# Altium footprint library MC-IMX6Q-BOARD.PcbLib: 56 footprints (part 2 of 4)
Each footprint in its own frame and in the unit in brackets; x right, y up, seen from the top. Pads: shape width x height; smd on the part's side, far side on the other; paste and mask are expansions set on the pad; w line width, h text height; cw(c..) or ccw(c..) is an arc to the next point about the centre after c.
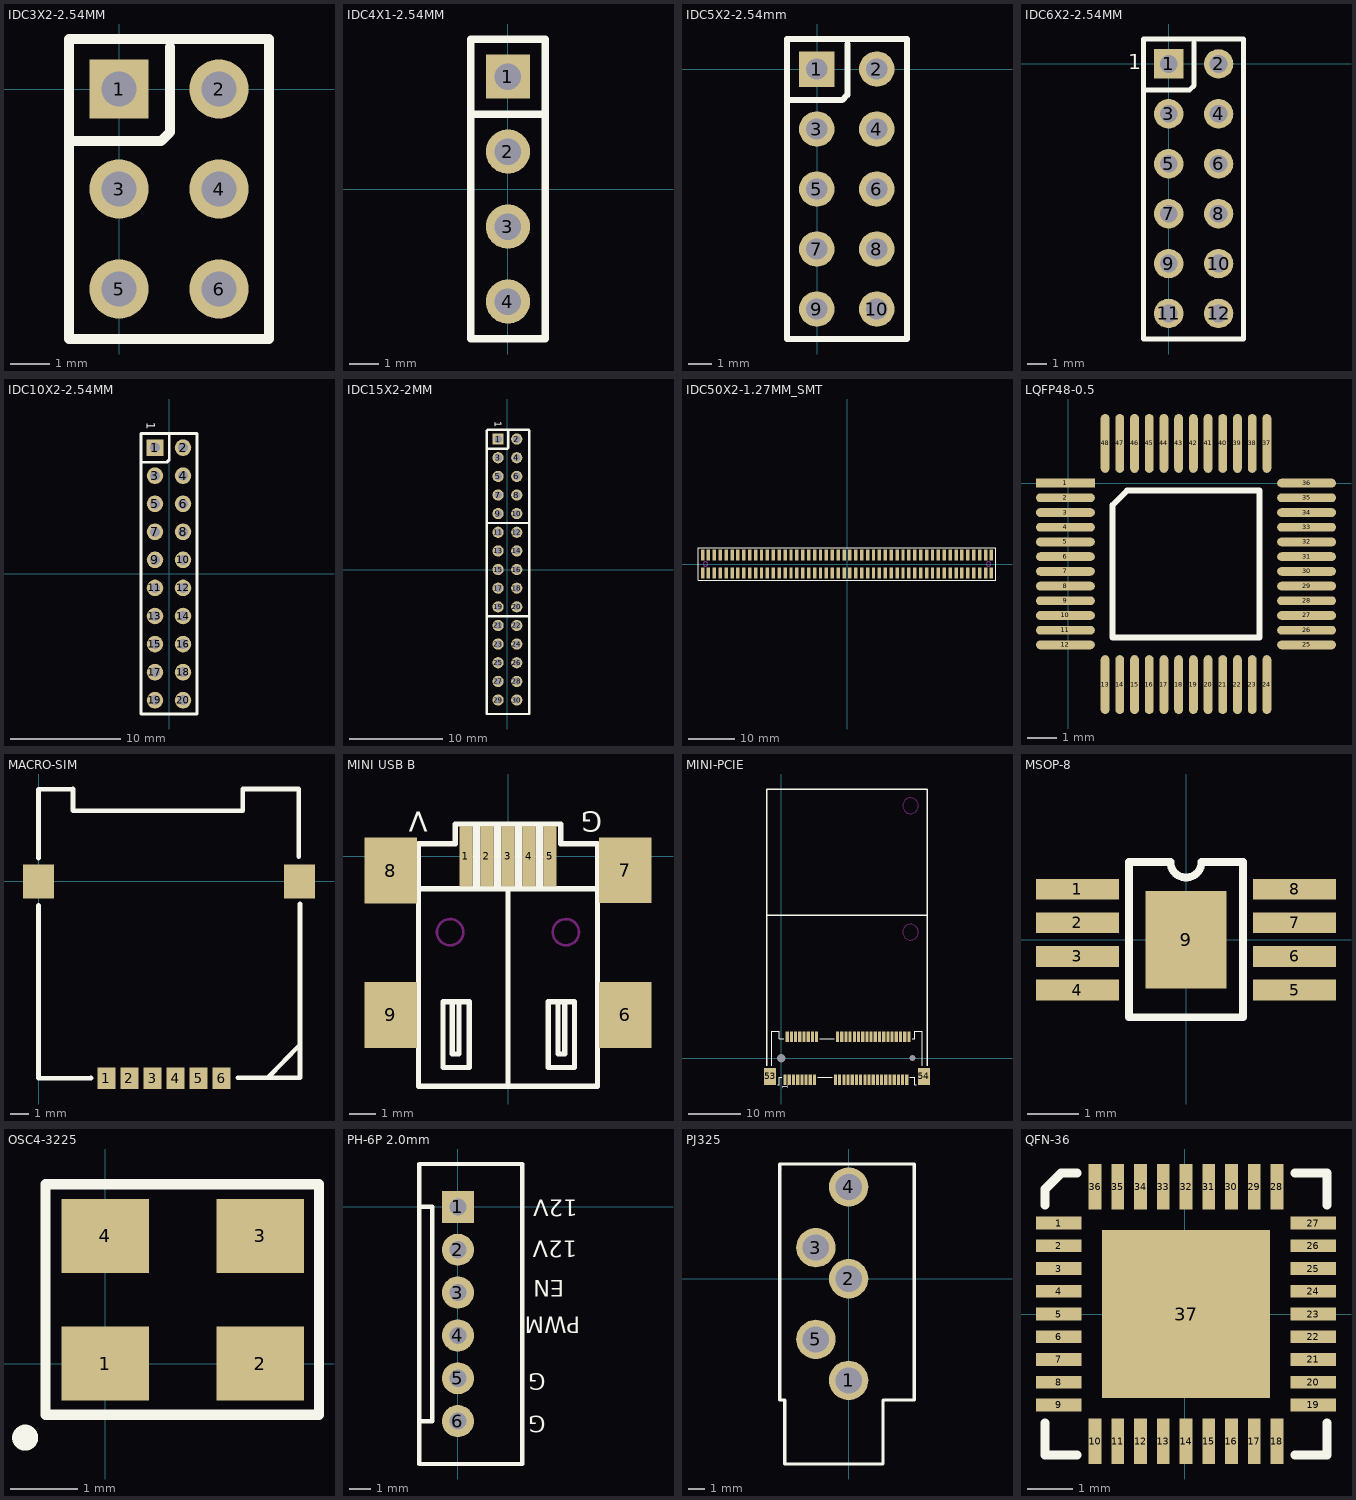
[diagram p1: the footprints below, top view; thin cyan lines are the x and y axes]

## IDC3X2-2.54MM [mm]
pads (6):
  rect 1.5x1.5 hole 0.9: 1(0,0)
  round 1.5 hole 0.9: 2(2.54,0) 3(0,-2.54) 4(2.54,-2.54) 5(0,-5.08) 6(2.54,-5.08)
Top Overlay:
  lines w0.254: -1.208,-1.32 1.072,-1.32 1.296,-1.096 1.296,1.064 ; -1.27,-6.35 3.81,-6.35 3.81,1.27 -1.27,1.27 -1.27,-6.35

## IDC4X1-2.54MM [mm]
pads (4):
  rect 1.5x1.5 hole 0.9: 1(0,3.81)
  round 1.5 hole 0.9: 2(0,1.27) 3(0,-1.27) 4(0,-3.81)
Top Overlay:
  lines w0.254: -1.268,2.542 1.272,2.542 ; -1.268,-5.078 -1.268,5.082 1.272,5.082 1.272,-5.078 -1.268,-5.078

## IDC5X2-2.54mm [mm]
height 1.35
pads (10):
  rect 1.5x1.5 hole 0.9: 1(-0.009,-0.002)
  round 1.5 hole 0.9: 2(2.531,-0.002) 3(-0.009,-2.542) 4(2.531,-2.542) 5(-0.009,-5.082) 6(2.531,-5.082) 7(-0.009,-7.622) 8(2.531,-7.622) 9(-0.009,-10.162) 10(2.531,-10.162)
Top Overlay:
  lines w0.254: -1.217,-1.322 1.063,-1.322 1.287,-1.098 1.287,1.062 ; -1.27,-11.43 -1.27,1.27 3.81,1.27 3.81,-11.43 -1.27,-11.43

## IDC6X2-2.54MM [mm]
height 1.35
pads (12):
  rect 1.5x1.5 hole 0.9: 1(0,0)
  round 1.5 hole 0.9: 2(2.54,0) 3(0,-2.54) 4(2.54,-2.54) 5(0,-5.08) 6(2.54,-5.08) 7(0,-7.62) 8(2.54,-7.62) 9(0,-10.16) 10(2.54,-10.16) 11(0,-12.7) 12(2.54,-12.7)
Top Overlay:
  lines w0.254: -1.28,-14 3.8,-14 ; -1.27,-14 -1.27,1.27 3.81,1.27 3.81,-14 ; -1.208,-1.32 1.072,-1.32 1.296,-1.096 1.296,1.064
  text "1" at -2.044,-0.275 h0.76

## IDC10X2-2.54MM [mm]
height 1.35
pads (20):
  rect 1.5x1.5 hole 0.9: 1(-1.27,11.43)
  round 1.5 hole 0.9: 2(1.27,11.43) 3(-1.27,8.89) 4(1.27,8.89) 5(-1.27,6.35) 6(1.27,6.35) 7(-1.27,3.81) 8(1.27,3.81) 9(-1.27,1.27) 10(1.27,1.27) 11(-1.27,-1.27) 12(1.27,-1.27) 13(-1.27,-3.81) 14(1.27,-3.81) 15(-1.27,-6.35) 16(1.27,-6.35) 17(-1.27,-8.89) 18(1.27,-8.89) 19(-1.27,-11.43) 20(1.27,-11.43)
Top Overlay:
  lines w0.254: -2.54,12.694 -2.54,-7.62 -2.54,-12.68 2.54,-12.68 2.54,-7.62 2.54,12.7 -2.54,12.7 ; -2.478,10.11 -0.198,10.11 0.026,10.334 0.026,12.694
  text "1" at -2.032,13.716 h0.76

## IDC15X2-2MM [mm]
height 1.4
pads (30):
  rect 1.2x1.2 hole 0.8: 1(-1,14)
  round 1.2 hole 0.8: 2(1,14) 3(-1,12) 4(1,12) 5(-1,10) 6(1,10) 7(-1,8) 8(1,8) 9(-1,6) 10(1,6) 11(-1,4) 12(1,4) 13(-1,2) 14(1,2) 15(-1,0) 16(1,0) 17(-1,-2) 18(1,-2) 19(-1,-4) 20(1,-4) 21(-1,-6) 22(1,-6) 23(-1,-8) 24(1,-8) 25(-1,-10) 26(1,-10) 27(-1,-12) 28(1,-12) 29(-1,-14) 30(1,-14)
Top Overlay:
  lines w0.254: -2.216,-5 2.336,-5 ; -2.216,5 2.285,5 ; -2.216,12.952 -0.016,12.952 0.072,13.04 0.072,14.888 ; -2.216,-15.5 2.336,-15.5 2.336,14.928 2.272,14.992 -2.136,14.992 -2.216,14.912 -2.216,-15.5
  text "1" at -1.381,15.93 h0.76

## IDC50X2-1.27MM_SMT [mm]
height 1.35
pads (100):
  rect 0.74x2.4 smd: 1(-31.115,-1.95) 2(-31.115,1.95) 3(-29.845,-1.95) 4(-29.845,1.95) 5(-28.575,-1.95) 6(-28.575,1.95) 7(-27.305,-1.95) 8(-27.305,1.95) 9(-26.035,-1.95) 10(-26.035,1.95) 11(-24.765,-1.95) 12(-24.765,1.95) 13(-23.495,-1.95) 14(-23.495,1.95) 15(-22.225,-1.95) 16(-22.225,1.95) 17(-20.955,-1.95) 18(-20.955,1.95) 19(-19.685,-1.95) 20(-19.685,1.95) 21(-18.415,-1.95) 22(-18.415,1.95) 23(-17.145,-1.95) 24(-17.145,1.95) 25(-15.875,-1.95) 26(-15.875,1.95) 27(-14.605,-1.95) 28(-14.605,1.95) 29(-13.335,-1.95) 30(-13.335,1.95) 31(-12.065,-1.95) 32(-12.065,1.95) 33(-10.795,-1.95) 34(-10.795,1.95) 35(-9.525,-1.95) 36(-9.525,1.95) 37(-8.255,-1.95) 38(-8.255,1.95) 39(-6.985,-1.95) 40(-6.985,1.95) 41(-5.715,-1.95) 42(-5.715,1.95) 43(-4.445,-1.95) 44(-4.445,1.95) 45(-3.175,-1.95) 46(-3.175,1.95) 47(-1.905,-1.95) 48(-1.905,1.95) 49(-0.635,-1.95) 50(-0.635,1.95) 51(0.635,-1.95) 52(0.635,1.95) 53(1.905,-1.95) 54(1.905,1.95) 55(3.175,-1.95) 56(3.175,1.95) 57(4.445,-1.95) 58(4.445,1.95) 59(5.715,-1.95) 60(5.715,1.95) 61(6.985,-1.95) 62(6.985,1.95) 63(8.255,-1.95) 64(8.255,1.95) 65(9.525,-1.95) 66(9.525,1.95) 67(10.795,-1.95) 68(10.795,1.95) 69(12.065,-1.95) 70(12.065,1.95) 71(13.335,-1.95) 72(13.335,1.95) 73(14.605,-1.95) 74(14.605,1.95) 75(15.875,-1.95) 76(15.875,1.95) 77(17.145,-1.95) 78(17.145,1.95) 79(18.415,-1.95) 80(18.415,1.95) 81(19.685,-1.95) 82(19.685,1.95) 83(20.955,-1.95) 84(20.955,1.95) 85(22.225,-1.95) 86(22.225,1.95) 87(23.495,-1.95) 88(23.495,1.95) 89(24.765,-1.95) 90(24.765,1.95) 91(26.035,-1.95) 92(26.035,1.95) 93(27.305,-1.95) 94(27.305,1.95) 95(28.575,-1.95) 96(28.575,1.95) 97(29.845,-1.95) 98(29.845,1.95) 99(31.115,-1.95) 100(31.115,1.95)
Top Overlay:
  lines w0.2: -32,-3.5 -32,3.5 32,3.5 32,-3.5 -32,-3.5
Keep-Out Layer:
  circle w0.203: c30.48,0 r0.5
  circle w0.203: c-30.48,0 r0.5

## LQFP48-0.5 [mm]
height 1.35
pads (48):
  rect 2x0.3 smd: 1(-0.1,0)
  oval 2x0.3 smd: 2(-0.1,-0.5) 3(-0.1,-1) 4(-0.1,-1.5) 5(-0.1,-2) 6(-0.1,-2.5) 7(-0.1,-3) 8(-0.1,-3.5) 9(-0.1,-4) 10(-0.1,-4.5) 11(-0.1,-5) 12(-0.1,-5.5) 25(8.1,-5.5) 26(8.1,-5) 27(8.1,-4.5) 28(8.1,-4) 29(8.1,-3.5) 30(8.1,-3) 31(8.1,-2.5) 32(8.1,-2) 33(8.1,-1.5) 34(8.1,-1) 35(8.1,-0.5) 36(8.1,0)
  oval 0.3x2 smd: 13(1.25,-6.85) 14(1.75,-6.85) 15(2.25,-6.85) 16(2.75,-6.85) 17(3.25,-6.85) 18(3.75,-6.85) 19(4.25,-6.85) 20(4.75,-6.85) 21(5.25,-6.85) 22(5.75,-6.85) 23(6.25,-6.85) 24(6.75,-6.85) 37(6.75,1.35) 38(6.25,1.35) 39(5.75,1.35) 40(5.25,1.35) 41(4.75,1.35) 42(4.25,1.35) 43(3.75,1.35) 44(3.25,1.35) 45(2.75,1.35) 46(2.25,1.35) 47(1.75,1.35) 48(1.25,1.35)
Top Overlay:
  lines w0.2: 1.5,-0.75 1.5,-5.25 6.5,-5.25 6.5,-0.25 2,-0.25
  lines w0.203: 1.5,-0.75 2,-0.25
  text "." at -1.047,0.863 h0.76

## MACRO-SIM [mm]
pads (8):
  rect 1x1.2 smd: 1(3.75,-10.86) 2(5.02,-10.86) 3(6.29,-10.86) 4(7.56,-10.86) 5(8.83,-10.86) 6(10.1,-10.86)
  rect 1.7x1.9 smd: ""(0,-0.01) ""(14.4,-0.01)
Top Overlay:
  lines w0.254: 0,-1.331 0,-10.86 2.896,-10.856 ; 0,1.285 0,5.09 1.905,5.095 1.905,3.902 11.278,3.902 11.278,5.095 14.351,5.095 14.351,1.362 ; 10.998,-10.83 14.427,-10.83 14.427,-1.229 ; 12.649,-10.83 14.427,-9.027

## MINI USB B [mm]
pads (9):
  rect 0.5x2.3 smd: 1(-1.6,0) 2(-0.8,0) 3(0,0) 4(0.8,0) 5(1.6,0)
  rect 2x2.5 smd: 6(4.45,-6.038) 7(4.45,-0.538) 8(-4.45,-0.554) 9(-4.45,-6.038)
Top Overlay:
  rectangle: 1.041,-1.143 1.346,1.143
  rectangle: 0.254,-1.168 0.559,1.118
  rectangle: -1.346,-1.143 -1.041,1.143
  rectangle: -0.559,-1.143 -0.254,1.143
  lines w0.2: -3.4,-1.241 3.4,-1.241 ; -2.114,-5.538 -2.114,-7.523 -1.91,-7.523 -1.86,-7.523 -1.86,-5.538 ; 0,-8.743 0,-1.245 ; 1.9,-5.538 1.9,-7.523 2.154,-7.523 2.154,-5.538 ; -3.4,-8.743 3.4,-8.743 3.4,0.462 2,0.462 2,1.219 -2,1.219 -2,0.462 -2.611,0.462 -3.4,0.462 -3.4,-8.743 ; -2.474,-8.037 -1.474,-8.037 -1.474,-5.538 -2.474,-5.538 -2.474,-8.037 ; 1.526,-8.037 1.526,-5.538 2.526,-5.538 2.526,-8.037 1.526,-8.037
  text "V" at -3.048,1.676 h0.76
  text "G" at 3.581,1.676 h0.76
Keep-Out Layer:
  circle w0.1: c-2.2,-2.893 r0.5
  circle w0.1: c2.2,-2.893 r0.5
3D body "miniUSB-DIP.STEP": height 3.95, standoff -1, extent -5.324,-8.77 5.376,0.43

## MINI-PCIE [mm]
pads (56):
  rect 0.6x2 smd: 1(0.7,-4.1) 2(1.1,4.1) 3(1.5,-4.1) 4(1.9,4.1) 5(2.3,-4.1) 6(2.7,4.1) 7(3.1,-4.1) 8(3.5,4.1) 9(3.9,-4.1) 10(4.3,4.1) 11(4.7,-4.1) 12(5.1,4.1) 13(5.5,-4.1) 14(5.9,4.1) 15(6.3,-4.1) 16(6.7,4.1) 17(10.3,-4.1) 18(10.7,4.1) 19(11.1,-4.1) 20(11.5,4.1) 21(11.9,-4.1) 22(12.3,4.1) 23(12.7,-4.1) 24(13.1,4.1) 25(13.5,-4.1) 26(13.9,4.1) 27(14.3,-4.1) 28(14.7,4.1) 29(15.1,-4.1) 30(15.5,4.1) 31(15.9,-4.1) 32(16.3,4.1) 33(16.7,-4.1) 34(17.1,4.1) 35(17.5,-4.1) 36(17.9,4.1) 37(18.3,-4.1) 38(18.7,4.1) 39(19.1,-4.1) 40(19.5,4.1) 41(19.9,-4.1) 42(20.3,4.1) 43(20.7,-4.1) 44(21.1,4.1) 45(21.5,-4.1) 46(21.9,4.1) 47(22.3,-4.1) 48(22.7,4.1) 49(23.1,-4.1) 50(23.5,4.1) 51(23.9,-4.1) 52(24.3,4.1)
  rect 2.3x3.2 smd: 53(-2.15,-3.5) 54(27.15,-3.5)
  rrect70% 0x0 hole 1.6: 55(0,0)
  rrect70% 0x0 hole 1.1: 56(25,0)
Top Overlay:
  lines w0.2: -1.8,-1.5 -1.8,5.1 -0.4,5.1 -0.4,3.7 0.4,3.7 ; -0.7,-5.1 -0.4,-5.1 -0.4,-3.7 0.1,-3.7 ; 6.9,-3.7 9.7,-3.7 ; 7.3,3.7 10.1,3.7 ; 24.5,-3.7 25.4,-3.7 25.4,-5.1 25.7,-5.1 ; 24.9,3.7 25.4,3.7 25.4,5.1 26.8,5.1 26.8,-1.5
  lines w0.254: -2.8,-1.5 -2.8,51.3 -2.3,51.3 27.8,51.3 27.8,-1.5 ; -2.8,27.2 27.8,27.2
  text "1" at 1.2,-5.9 h1.02
Keep-Out Layer:
  circle w0.203: c24.6,24 r1.5
  circle w0.203: c24.6,48.1 r1.5

## MSOP-8 [mm]
height 1.35
pads (9):
  rect 1.6x0.4 smd: 1(-2.1,0.975) 2(-2.1,0.325) 3(-2.1,-0.325) 4(-2.1,-0.975) 5(2.1,-0.975) 6(2.1,-0.325) 7(2.1,0.325) 8(2.1,0.975)
  rect 1.57x1.89 smd: 9(0,0)
Top Overlay:
  lines w0.15: -1.1,-1.5 -1.1,1.5 -0.3,1.5 ccw(c0,1.5) 0.3,1.5 1.1,1.5 1.1,-1.5 -1.1,-1.5

## OSC4-3225 [mm]
height 1.35
pads (4):
  rect 1.3x1.1 smd: 1(0,0) 2(2.3,0) 3(2.3,1.9) 4(0,1.9)
Top Overlay:
  circle w0.203: c-1.192,-1.101 r0.092
  lines w0.152: -0.889,-0.762 -0.889,2.667 3.175,2.667 3.175,-0.762 -0.889,-0.762

## PH-6P 2.0mm [mm]
height 1.4
pads (6):
  rect 1.5x1.5 hole 0.8: 1(0,0)
  round 1.5 hole 0.8: 2(0,-2) 3(0,-4) 4(0,-6) 5(0,-8) 6(0,-10)
Top Overlay:
  lines w0.2: -1.796,-10 -1.2,-10 -1.2,0 -1.796,0 ; -1.8,-12 3,-12 3,2 -1.8,2 -1.8,-12
  text "G" at 4.089,-9.754 h0.76
  text "G" at 4.089,-7.772 h0.76
  text "PWM" at 5.715,-5.131 h0.76
  text "EN" at 4.953,-3.429 h0.76
  text "12V" at 5.563,-1.575 h0.76
  text "12V" at 5.588,0.33 h0.76

## PJ325 [mm]
height 1.35
pads (5):
  round 2.4 hole 1.6: 1(0,-6.2) 2(0,0) 3(-2,1.9) 4(0,5.6) 5(-2,-3.7)
Top Overlay:
  lines w0.2: -4.2,-7.4 -4.2,7 1.1,7 4,7 4,-7.4 2.1,-7.4 2.1,-11.3 -3.9,-11.3 -3.9,-7.4 -4.2,-7.4
Mechanical 1:
  lines w0.2: -4.2,6.7 -4.2,6.7

## QFN-36 [mm]
height 1.35
pads (37):
  rect 1x0.28 smd: 1(-2.777,2) 2(-2.777,1.5) 3(-2.777,1) 4(-2.777,0.5) 5(-2.777,0) 6(-2.777,-0.5) 7(-2.777,-1) 8(-2.777,-1.5) 9(-2.777,-2) 19(2.823,-2) 20(2.823,-1.5) 21(2.823,-1) 22(2.823,-0.5) 23(2.823,0) 24(2.823,0.5) 25(2.823,1) 26(2.823,1.5) 27(2.823,2)
  rect 0.28x1 smd: 10(-1.977,-2.8) 11(-1.477,-2.8) 12(-0.977,-2.8) 13(-0.477,-2.8) 14(0.023,-2.8) 15(0.523,-2.8) 16(1.023,-2.8) 17(1.523,-2.8) 18(2.023,-2.8) 28(2.023,2.8) 29(1.523,2.8) 30(1.023,2.8) 31(0.523,2.8) 32(0.023,2.8) 33(-0.477,2.8) 34(-0.977,2.8) 35(-1.477,2.8) 36(-1.977,2.8)
  rect 3.7x3.7 smd: 37(0.023,0)
Top Overlay:
  lines w0.2: -3.077,-2.4 -3.077,-3.1 -2.377,-3.1 ; -3.077,2.4 -3.077,2.75 -2.727,3.1 -2.377,3.1 ; 2.423,-3.1 3.123,-3.1 3.123,-2.4 ; 2.423,3.1 3.123,3.1 3.123,2.4